# EAGLE library part IC_LTC4053 (library untitled)
USB Compatible Li-Ion Battery Charger
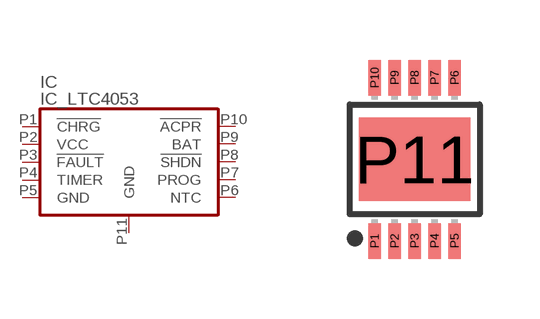
[diagram p27: symbol with the pads of MSOP-10; footprint MSOP-10]

Designator prefix IC

## IC_LTC4053-MSOP-10  [MSOP-10]
P1  !CHRG  pas
P2  VCC  pwr
P3  !FAULT  pas
P4  TIMER  pas
P5  GND  pwr
P6  NTC  pas
P7  PROG  pas
P8  !SHDN  pas
P9  BAT  pas
P10  !ACPR  pas
P11  GND  pwr

## Footprint MSOP-10 (pad centres in mm)
Exposed Pad 0.5mm pitch
smd 0.31 x 0.89: P1 -1,-2.045; P2 -0.5,-2.045; P3 0,-2.045; P4 0.5,-2.045; P5 1,-2.045; P6 1,2.045; P7 0.5,2.045; P8 0,2.045; P9 -0.5,2.045; P10 -1,2.045
smd 2.79 x 2.08: P11 0,0